# EAGLE library part FIO1 (library fio)
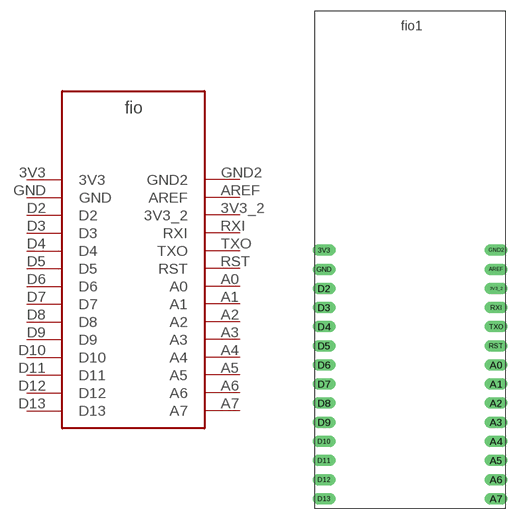
[diagram p0: symbol with the pads of FIO1; footprint FIO1]

Designator prefix -

## FIO1  [FIO1]
3V3  3V3
3V3_2  3V3_2
A0  A0
A1  A1
A2  A2
A3  A3
A4  A4
A5  A5
A6  A6
A7  A7
AREF  AREF
D2  D2
D3  D3
D4  D4
D5  D5
D6  D6
D7  D7
D8  D8
D9  D9
D10  D10
D11  D11
D12  D12
D13  D13
GND  GND
GND2  GND2
RST  RST
RXI  RXI
TXO  TXO

## Footprint FIO1 (pad centres in mm)
drill 1 long: 3V3 -11.43,-1.27; 3V3_2 11.43,-6.35; A0 11.43,-16.51; A1 11.43,-19.05; A2 11.43,-21.59; A3 11.43,-24.13; A4 11.43,-26.67; A5 11.43,-29.21; A6 11.43,-31.75; A7 11.43,-34.29; AREF 11.43,-3.81; D2 -11.43,-6.35; D3 -11.43,-8.89; D4 -11.43,-11.43; D5 -11.43,-13.97; D6 -11.43,-16.51; D7 -11.43,-19.05; D8 -11.43,-21.59; D9 -11.43,-24.13; D10 -11.43,-26.67; D11 -11.43,-29.21; D12 -11.43,-31.75; D13 -11.43,-34.29; GND -11.43,-3.81; GND2 11.43,-1.27; RST 11.43,-13.97; RXI 11.43,-8.89; TXO 11.43,-11.43